# Altium schematic symbol library kmilo17pet-NSC_LDO.SchLib: 2675 symbols (part 20 of 65)
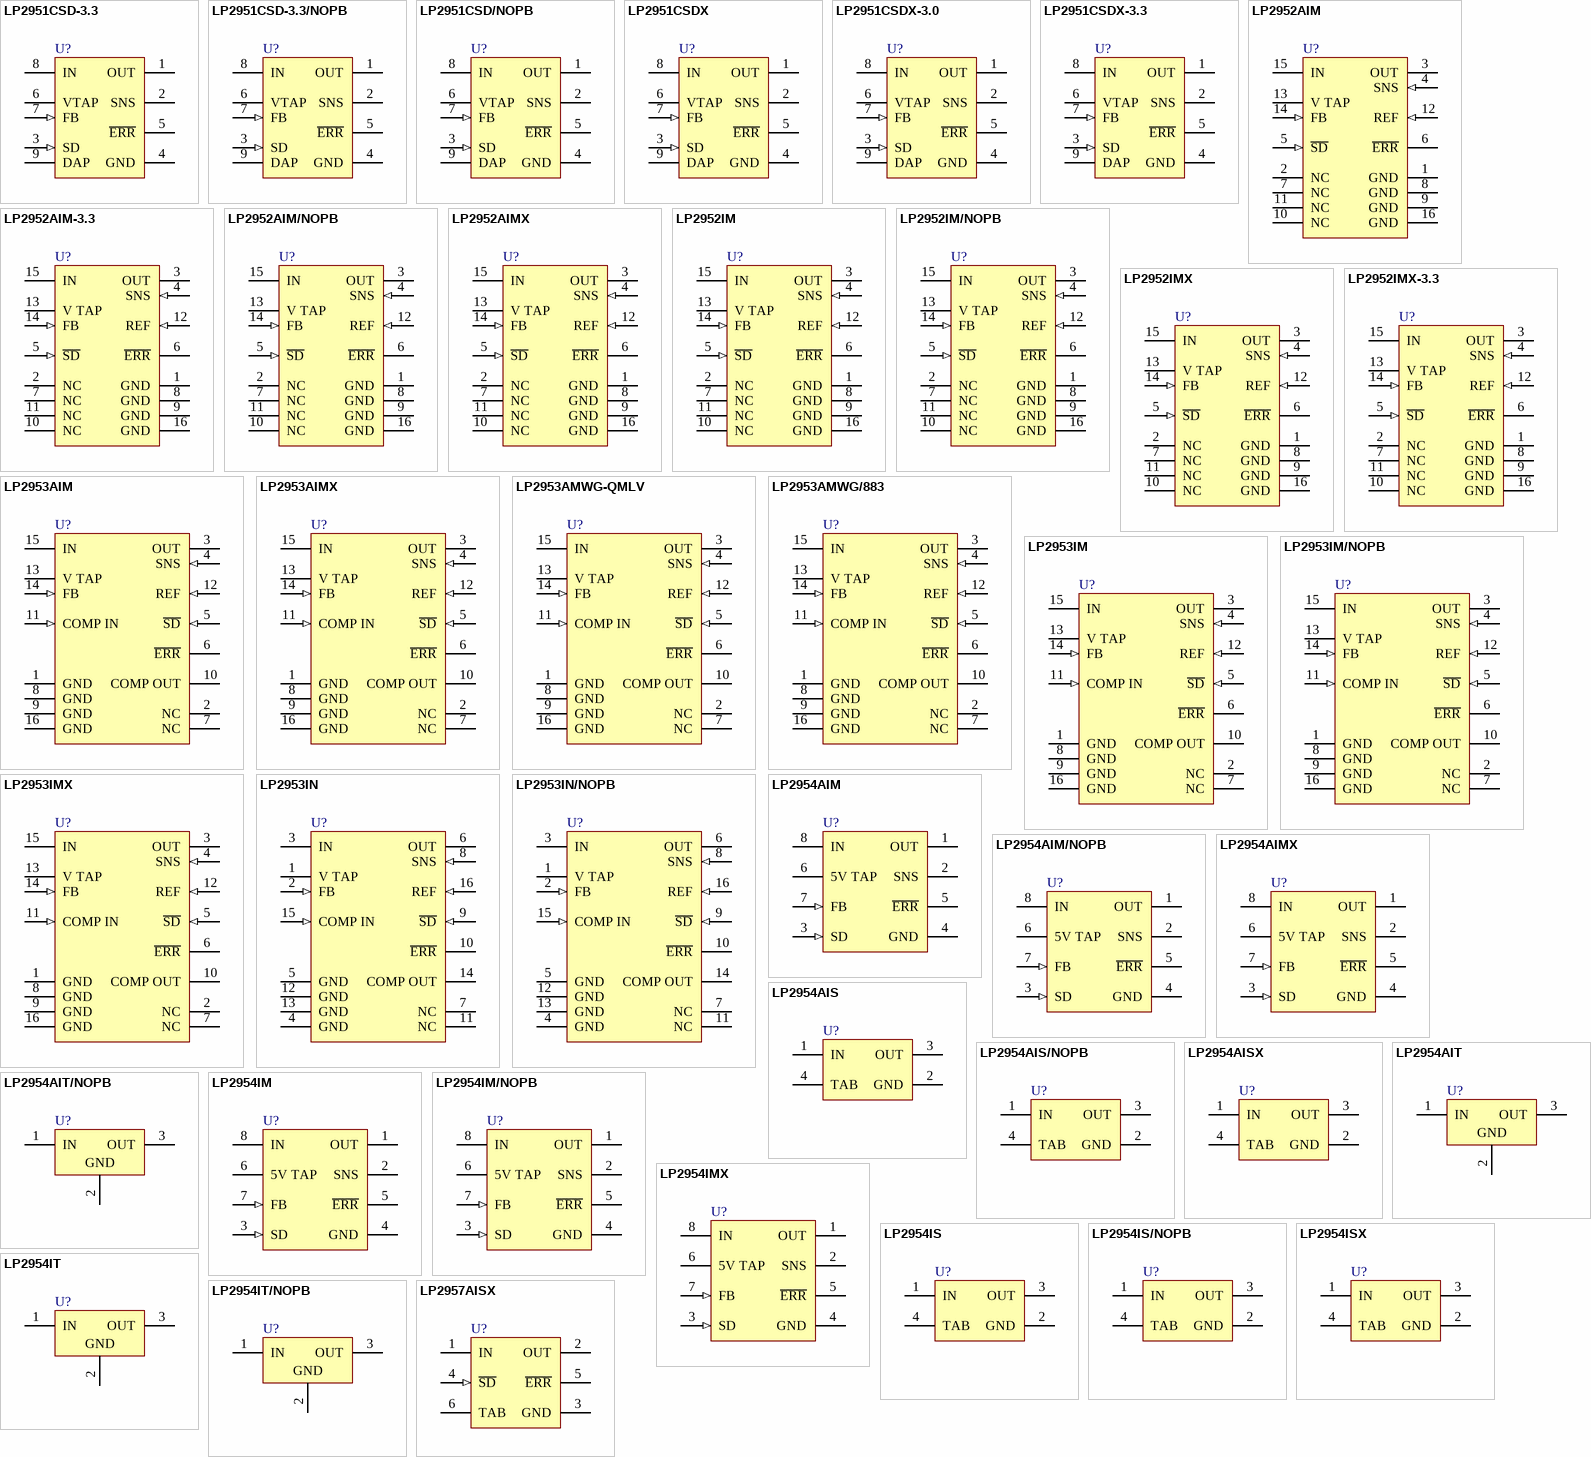
[diagram p86: symbols LP2951CSD-3.3 to LP2957AISX]

## LP2953IN
designator U?
Adjustable Micropower Low-Dropout Voltage Regulator, 16-pin MDIP; PartNumber: LP2953IN; Manufacturer: National Semiconductor; PackageTopMarking: NSUZXYYTTE#*LP2953IN; PowerWise: N; CompType: LDO IC; High-Reliability: Y; DatasheetVersion: Mar-2005; PackageVersion: revB, Feb-1989; PackageReference: N16G; PackageDescription: Molded Dip (N), 16 Lead, 15 Mil Power Package; RoHS: N; PinCount: 16; ComponentLink1Description: Manufacturer URL; ComponentLink1URL: http://www.national.com/; ComponentLink2Description: LP2953 Datasheet; ComponentLink2URL: http://www.national.com/ds/LP/LP2953.pdf; ComponentLink3Description: LP2953 Web Page; ComponentLink3URL: http://www.national.com/pf/LP/LP2953.html; ComponentLink4Description: N16G Package Page; ComponentLink4URL: http://www.national.com/packaging/folders/n16g.html
footprint N16G (DIP, 16-Leads, Row Spacing 7.62mm, Pitch 2.54mm, Body 21.76x6.35mm)
pins: 1 V TAP, 2 FB (in), 3 IN (power), 4 GND (power), 5 GND (power), 6 OUT (power), 7 NC, 8 SNS (in), 9 ~{SD} (in), 10 ~{ERR} (oc), 11 NC, 12 GND (power), 13 GND, 14 COMP OUT (oc), 15 COMP IN (in), 16 REF (in)

## LP2953IN/NOPB
designator U?
Adjustable Micropower Low-Dropout Voltage Regulator, 16-pin MDIP, Pb-Free; PartNumber: LP2953IN/NOPB; Manufacturer: National Semiconductor; PackageTopMarking: NSUZXYYTTE#*LP2953IN; PowerWise: N; CompType: LDO IC; High-Reliability: Y; DatasheetVersion: Mar-2005; PackageVersion: revB, Feb-1989; PackageReference: N16G; PackageDescription: Molded Dip (N), 16 Lead, 15 Mil Power Package; RoHS: Y; PinCount: 16; ComponentLink1Description: Manufacturer URL; ComponentLink1URL: http://www.national.com/; ComponentLink2Description: LP2953 Datasheet; ComponentLink2URL: http://www.national.com/ds/LP/LP2953.pdf; ComponentLink3Description: LP2953 Web Page; ComponentLink3URL: http://www.national.com/pf/LP/LP2953.html; ComponentLink4Description: N16G Package Page; ComponentLink4URL: http://www.national.com/packaging/folders/n16g.html
footprint N16G (DIP, 16-Leads, Row Spacing 7.62mm, Pitch 2.54mm, Body 21.76x6.35mm)
pins: 1 V TAP, 2 FB (in), 3 IN (power), 4 GND (power), 5 GND (power), 6 OUT (power), 7 NC, 8 SNS (in), 9 ~{SD} (in), 10 ~{ERR} (oc), 11 NC, 12 GND (power), 13 GND, 14 COMP OUT (oc), 15 COMP IN (in), 16 REF (in)

## LP2954AIM
designator U?
5V Micropower Low-Dropout Voltage Regulator, 8-pin Narrow SOIC; PartNumber: LP2954AIM; Manufacturer: National Semiconductor; PackageTopMarking: NSZXTT*LP295*4AIM; PowerWise: N; CompType: LDO IC; High-Reliability: Y; DatasheetVersion: Apr-2005; PackageVersion: revM, May-2009; PackageReference: M08A; PackageDescription: SOIC Narrow, 4.9 x 3.9 x 1.45mm, 8 Lead, 1.27mm Pitch; RoHS: N; PinCount: 8; Code_JEDEC: MS-012-AA; Code_IPC: SOIC127P600-8; ComponentLink1Description: Manufacturer URL; ComponentLink1URL: http://www.national.com/; ComponentLink2Description: LP2954A Datasheet; ComponentLink2URL: http://www.national.com/ds/LP/LP2954A.pdf; ComponentLink3Description: LP2954A Web Page; ComponentLink3URL: http://www.national.com/pf/LP/LP2954A.html; ComponentLink4Description: M08A Package Page; ComponentLink4URL: http://www.national.com/packaging/folders/m08a.html
footprint M08A_N (SOIC, 8-Leads, Body 4.9x3.9mm, Pitch 1.27mm, IPC Medium Density)
footprint M08A_L (SOIC, 8-Leads, Body 4.9x3.9mm, Pitch 1.27mm, IPC High Density)
footprint M08A_M (SOIC, 8-Leads, Body 4.9x3.9mm, Pitch 1.27mm, IPC Low Density)
pins: 1 OUT (power), 2 SNS, 3 SD (in), 4 GND (power), 5 ~{ERR} (oc), 6 5V TAP, 7 FB (in), 8 IN (power)

## LP2954AIM/NOPB
designator U?
5V Micropower Low-Dropout Voltage Regulator, 8-pin Narrow SOIC, Pb-Free; PartNumber: LP2954AIM/NOPB; Manufacturer: National Semiconductor; PackageTopMarking: NSZXTT*LP295*4AIM; PowerWise: N; CompType: LDO IC; High-Reliability: Y; DatasheetVersion: Apr-2005; PackageVersion: revM, May-2009; PackageReference: M08A; PackageDescription: SOIC Narrow, 4.9 x 3.9 x 1.45mm, 8 Lead, 1.27mm Pitch; RoHS: Y; PinCount: 8; Code_JEDEC: MS-012-AA; Code_IPC: SOIC127P600-8; ComponentLink1Description: Manufacturer URL; ComponentLink1URL: http://www.national.com/; ComponentLink2Description: LP2954A Datasheet; ComponentLink2URL: http://www.national.com/ds/LP/LP2954A.pdf; ComponentLink3Description: LP2954A Web Page; ComponentLink3URL: http://www.national.com/pf/LP/LP2954A.html; ComponentLink4Description: M08A Package Page; ComponentLink4URL: http://www.national.com/packaging/folders/m08a.html
footprint M08A_N (SOIC, 8-Leads, Body 4.9x3.9mm, Pitch 1.27mm, IPC Medium Density)
footprint M08A_L (SOIC, 8-Leads, Body 4.9x3.9mm, Pitch 1.27mm, IPC High Density)
footprint M08A_M (SOIC, 8-Leads, Body 4.9x3.9mm, Pitch 1.27mm, IPC Low Density)
pins: 1 OUT (power), 2 SNS, 3 SD (in), 4 GND (power), 5 ~{ERR} (oc), 6 5V TAP, 7 FB (in), 8 IN (power)

## LP2954AIMX
designator U?
5V Micropower Low-Dropout Voltage Regulator, 8-pin Narrow SOIC; PartNumber: LP2954AIMX; Manufacturer: National Semiconductor; PackageTopMarking: NSZXTT*LP295*4AIM; PowerWise: N; CompType: LDO IC; High-Reliability: Y; DatasheetVersion: Apr-2005; PackageVersion: revM, May-2009; PackageReference: M08A; PackageDescription: SOIC Narrow, 4.9 x 3.9 x 1.45mm, 8 Lead, 1.27mm Pitch; RoHS: N; PinCount: 8; Code_JEDEC: MS-012-AA; Code_IPC: SOIC127P600-8; ComponentLink1Description: Manufacturer URL; ComponentLink1URL: http://www.national.com/; ComponentLink2Description: LP2954A Datasheet; ComponentLink2URL: http://www.national.com/ds/LP/LP2954A.pdf; ComponentLink3Description: LP2954A Web Page; ComponentLink3URL: http://www.national.com/pf/LP/LP2954A.html; ComponentLink4Description: M08A Package Page; ComponentLink4URL: http://www.national.com/packaging/folders/m08a.html
footprint M08A_N (SOIC, 8-Leads, Body 4.9x3.9mm, Pitch 1.27mm, IPC Medium Density)
footprint M08A_L (SOIC, 8-Leads, Body 4.9x3.9mm, Pitch 1.27mm, IPC High Density)
footprint M08A_M (SOIC, 8-Leads, Body 4.9x3.9mm, Pitch 1.27mm, IPC Low Density)
pins: 1 OUT (power), 2 SNS, 3 SD (in), 4 GND (power), 5 ~{ERR} (oc), 6 5V TAP, 7 FB (in), 8 IN (power)

## LP2954AIS
designator U?
5V Micropower Low-Dropout Voltage Regulator, 3-pin TO-263; PartNumber: LP2954AIS; Manufacturer: National Semiconductor; PackageTopMarking: NSUZXYTTE#*LP2954AIS; PowerWise: N; CompType: LDO IC; High-Reliability: Y; DatasheetVersion: Apr-2005; PackageVersion: revF, Apr-2005; PackageReference: TS3B; PackageDescription: TO-263, Molded, .400 x .390 x .180in, 3 Lead, .1in Pitch, Surface Mount; RoHS: N; PinCount: 3; Code_JEDEC: MO-169-AA; ComponentLink1Description: Manufacturer URL; ComponentLink1URL: http://www.national.com/; ComponentLink2Description: LP2954A Datasheet; ComponentLink2URL: http://www.national.com/ds/LP/LP2954A.pdf; ComponentLink3Description: LP2954A Web Page; ComponentLink3URL: http://www.national.com/pf/LP/LP2954A.html; ComponentLink4Description: TS3B Package Page; ComponentLink4URL: http://www.national.com/packaging/folders/ts3b.html
footprint TS3B_N (D2-PAK, 4-Leads, Body 8.6x10.2mm, Pitch 2.54mm, Lead Span 14.2mm, IPC Medium Density)
footprint TS3B_L (D2-PAK, 4-Leads, Body 8.6x10.2mm, Pitch 2.54mm, Lead Span 14.2mm, IPC High Density)
footprint TS3B_M (D2-PAK, 4-Leads, Body 8.6x10.2mm, Pitch 2.54mm, Lead Span 14.2mm, IPC Low Density)
pins: 1 IN (power), 2 GND (power), 3 OUT (power), 4 TAB (power)

## LP2954AIS/NOPB
designator U?
5V Micropower Low-Dropout Voltage Regulator, 3-pin TO-263, Pb-Free; PartNumber: LP2954AIS/NOPB; Manufacturer: National Semiconductor; PackageTopMarking: NSUZXYTTE#*LP2954AIS; PowerWise: N; CompType: LDO IC; High-Reliability: Y; DatasheetVersion: Apr-2005; PackageVersion: revF, Apr-2005; PackageReference: TS3B; PackageDescription: TO-263, Molded, .400 x .390 x .180in, 3 Lead, .1in Pitch, Surface Mount; RoHS: Y; PinCount: 3; Code_JEDEC: MO-169-AA; ComponentLink1Description: Manufacturer URL; ComponentLink1URL: http://www.national.com/; ComponentLink2Description: LP2954A Datasheet; ComponentLink2URL: http://www.national.com/ds/LP/LP2954A.pdf; ComponentLink3Description: LP2954A Web Page; ComponentLink3URL: http://www.national.com/pf/LP/LP2954A.html; ComponentLink4Description: TS3B Package Page; ComponentLink4URL: http://www.national.com/packaging/folders/ts3b.html
footprint TS3B_N (D2-PAK, 4-Leads, Body 8.6x10.2mm, Pitch 2.54mm, Lead Span 14.2mm, IPC Medium Density)
footprint TS3B_L (D2-PAK, 4-Leads, Body 8.6x10.2mm, Pitch 2.54mm, Lead Span 14.2mm, IPC High Density)
footprint TS3B_M (D2-PAK, 4-Leads, Body 8.6x10.2mm, Pitch 2.54mm, Lead Span 14.2mm, IPC Low Density)
pins: 1 IN (power), 2 GND (power), 3 OUT (power), 4 TAB (power)

## LP2954AISX
designator U?
5V Micropower Low-Dropout Voltage Regulator, 3-pin TO-263; PartNumber: LP2954AISX; Manufacturer: National Semiconductor; PackageTopMarking: NSUZXYTTE#*LP2954AIS; PowerWise: N; CompType: LDO IC; High-Reliability: Y; DatasheetVersion: Apr-2005; PackageVersion: revF, Apr-2005; PackageReference: TS3B; PackageDescription: TO-263, Molded, .400 x .390 x .180in, 3 Lead, .1in Pitch, Surface Mount; RoHS: N; PinCount: 3; Code_JEDEC: MO-169-AA; ComponentLink1Description: Manufacturer URL; ComponentLink1URL: http://www.national.com/; ComponentLink2Description: LP2954A Datasheet; ComponentLink2URL: http://www.national.com/ds/LP/LP2954A.pdf; ComponentLink3Description: LP2954A Web Page; ComponentLink3URL: http://www.national.com/pf/LP/LP2954A.html; ComponentLink4Description: TS3B Package Page; ComponentLink4URL: http://www.national.com/packaging/folders/ts3b.html
footprint TS3B_N (D2-PAK, 4-Leads, Body 8.6x10.2mm, Pitch 2.54mm, Lead Span 14.2mm, IPC Medium Density)
footprint TS3B_L (D2-PAK, 4-Leads, Body 8.6x10.2mm, Pitch 2.54mm, Lead Span 14.2mm, IPC High Density)
footprint TS3B_M (D2-PAK, 4-Leads, Body 8.6x10.2mm, Pitch 2.54mm, Lead Span 14.2mm, IPC Low Density)
pins: 1 IN (power), 2 GND (power), 3 OUT (power), 4 TAB (power)

## LP2954AIT
designator U?
5V Micropower Low-Dropout Voltage Regulator, 3-pin TO-220; PartNumber: LP2954AIT; Manufacturer: National Semiconductor; PackageTopMarking: NSUZXYTTE#*LP2954AIT; PowerWise: N; CompType: LDO IC; High-Reliability: Y; DatasheetVersion: Apr-2005; PackageVersion: revL, Jan-1992; PackageReference: T03B; PackageDescription: TO-220, Molded, 3 Lead, Straight; RoHS: N; PinCount: 3; ComponentLink1Description: Manufacturer URL; ComponentLink1URL: http://www.national.com/; ComponentLink2Description: LP2954A Datasheet; ComponentLink2URL: http://www.national.com/ds/LP/LP2954A.pdf; ComponentLink3Description: LP2954A Web Page; ComponentLink3URL: http://www.national.com/pf/LP/LP2954A.html; ComponentLink4Description: T03B Package Page; ComponentLink4URL: http://www.national.com/packaging/folders/t03b.html
footprint T03B (TO, Thru-Hole, Vertical, Heatsink Mounted; 3 In-Line Leads; Pitch 2.54 mm)
pins: 1 IN (power), 2 GND (power), 3 OUT (power)

## LP2954AIT/NOPB
designator U?
5V Micropower Low-Dropout Voltage Regulator, 3-pin TO-220, Pb-Free; PartNumber: LP2954AIT/NOPB; Manufacturer: National Semiconductor; PackageTopMarking: NSUZXYTTE#*LP2954AIT; PowerWise: N; CompType: LDO IC; High-Reliability: Y; DatasheetVersion: Apr-2005; PackageVersion: revL, Jan-1992; PackageReference: T03B; PackageDescription: TO-220, Molded, 3 Lead, Straight; RoHS: Y; PinCount: 3; ComponentLink1Description: Manufacturer URL; ComponentLink1URL: http://www.national.com/; ComponentLink2Description: LP2954A Datasheet; ComponentLink2URL: http://www.national.com/ds/LP/LP2954A.pdf; ComponentLink3Description: LP2954A Web Page; ComponentLink3URL: http://www.national.com/pf/LP/LP2954A.html; ComponentLink4Description: T03B Package Page; ComponentLink4URL: http://www.national.com/packaging/folders/t03b.html
footprint T03B (TO, Thru-Hole, Vertical, Heatsink Mounted; 3 In-Line Leads; Pitch 2.54 mm)
pins: 1 IN (power), 2 GND (power), 3 OUT (power)

## LP2954IM
designator U?
5V Micropower Low-Dropout Voltage Regulator, 8-pin Narrow SOIC; PartNumber: LP2954IM; Manufacturer: National Semiconductor; PackageTopMarking: NSZXTT*LP29*54IM; PowerWise: N; CompType: LDO IC; High-Reliability: Y; DatasheetVersion: Apr-2005; PackageVersion: revM, May-2009; PackageReference: M08A; PackageDescription: SOIC Narrow, 4.9 x 3.9 x 1.45mm, 8 Lead, 1.27mm Pitch; RoHS: N; PinCount: 8; Code_JEDEC: MS-012-AA; Code_IPC: SOIC127P600-8; ComponentLink1Description: Manufacturer URL; ComponentLink1URL: http://www.national.com/; ComponentLink2Description: LP2954 Datasheet; ComponentLink2URL: http://www.national.com/ds/LP/LP2954.pdf; ComponentLink3Description: LP2954 Web Page; ComponentLink3URL: http://www.national.com/pf/LP/LP2954.html; ComponentLink4Description: M08A Package Page; ComponentLink4URL: http://www.national.com/packaging/folders/m08a.html
footprint M08A_N (SOIC, 8-Leads, Body 4.9x3.9mm, Pitch 1.27mm, IPC Medium Density)
footprint M08A_L (SOIC, 8-Leads, Body 4.9x3.9mm, Pitch 1.27mm, IPC High Density)
footprint M08A_M (SOIC, 8-Leads, Body 4.9x3.9mm, Pitch 1.27mm, IPC Low Density)
pins: 1 OUT (power), 2 SNS, 3 SD (in), 4 GND (power), 5 ~{ERR} (oc), 6 5V TAP, 7 FB (in), 8 IN (power)

## LP2954IM/NOPB
designator U?
5V Micropower Low-Dropout Voltage Regulator, 8-pin Narrow SOIC, Pb-Free; PartNumber: LP2954IM/NOPB; Manufacturer: National Semiconductor; PackageTopMarking: NSZXTT*LP29*54IM; PowerWise: N; CompType: LDO IC; High-Reliability: Y; DatasheetVersion: Apr-2005; PackageVersion: revM, May-2009; PackageReference: M08A; PackageDescription: SOIC Narrow, 4.9 x 3.9 x 1.45mm, 8 Lead, 1.27mm Pitch; RoHS: Y; PinCount: 8; Code_JEDEC: MS-012-AA; Code_IPC: SOIC127P600-8; ComponentLink1Description: Manufacturer URL; ComponentLink1URL: http://www.national.com/; ComponentLink2Description: LP2954 Datasheet; ComponentLink2URL: http://www.national.com/ds/LP/LP2954.pdf; ComponentLink3Description: LP2954 Web Page; ComponentLink3URL: http://www.national.com/pf/LP/LP2954.html; ComponentLink4Description: M08A Package Page; ComponentLink4URL: http://www.national.com/packaging/folders/m08a.html
footprint M08A_N (SOIC, 8-Leads, Body 4.9x3.9mm, Pitch 1.27mm, IPC Medium Density)
footprint M08A_L (SOIC, 8-Leads, Body 4.9x3.9mm, Pitch 1.27mm, IPC High Density)
footprint M08A_M (SOIC, 8-Leads, Body 4.9x3.9mm, Pitch 1.27mm, IPC Low Density)
pins: 1 OUT (power), 2 SNS, 3 SD (in), 4 GND (power), 5 ~{ERR} (oc), 6 5V TAP, 7 FB (in), 8 IN (power)

## LP2954IMX
designator U?
5V Micropower Low-Dropout Voltage Regulator, 8-pin Narrow SOIC; PartNumber: LP2954IMX; Manufacturer: National Semiconductor; PackageTopMarking: NSZXTT*LP29*54IM; PowerWise: N; CompType: LDO IC; High-Reliability: Y; DatasheetVersion: Apr-2005; PackageVersion: revM, May-2009; PackageReference: M08A; PackageDescription: SOIC Narrow, 4.9 x 3.9 x 1.45mm, 8 Lead, 1.27mm Pitch; RoHS: N; PinCount: 8; Code_JEDEC: MS-012-AA; Code_IPC: SOIC127P600-8; ComponentLink1Description: Manufacturer URL; ComponentLink1URL: http://www.national.com/; ComponentLink2Description: LP2954 Datasheet; ComponentLink2URL: http://www.national.com/ds/LP/LP2954.pdf; ComponentLink3Description: LP2954 Web Page; ComponentLink3URL: http://www.national.com/pf/LP/LP2954.html; ComponentLink4Description: M08A Package Page; ComponentLink4URL: http://www.national.com/packaging/folders/m08a.html
footprint M08A_N (SOIC, 8-Leads, Body 4.9x3.9mm, Pitch 1.27mm, IPC Medium Density)
footprint M08A_L (SOIC, 8-Leads, Body 4.9x3.9mm, Pitch 1.27mm, IPC High Density)
footprint M08A_M (SOIC, 8-Leads, Body 4.9x3.9mm, Pitch 1.27mm, IPC Low Density)
pins: 1 OUT (power), 2 SNS, 3 SD (in), 4 GND (power), 5 ~{ERR} (oc), 6 5V TAP, 7 FB (in), 8 IN (power)

## LP2954IS
designator U?
5V Micropower Low-Dropout Voltage Regulator, 3-pin TO-263; PartNumber: LP2954IS; Manufacturer: National Semiconductor; PackageTopMarking: NSUZXYTTE#*LP2954IS; PowerWise: N; CompType: LDO IC; High-Reliability: Y; DatasheetVersion: Apr-2005; PackageVersion: revF, Apr-2005; PackageReference: TS3B; PackageDescription: TO-263, Molded, .400 x .390 x .180in, 3 Lead, .1in Pitch, Surface Mount; RoHS: N; PinCount: 3; Code_JEDEC: MO-169-AA; ComponentLink1Description: Manufacturer URL; ComponentLink1URL: http://www.national.com/; ComponentLink2Description: LP2954 Datasheet; ComponentLink2URL: http://www.national.com/ds/LP/LP2954.pdf; ComponentLink3Description: LP2954 Web Page; ComponentLink3URL: http://www.national.com/pf/LP/LP2954.html; ComponentLink4Description: TS3B Package Page; ComponentLink4URL: http://www.national.com/packaging/folders/ts3b.html
footprint TS3B_N (D2-PAK, 4-Leads, Body 8.6x10.2mm, Pitch 2.54mm, Lead Span 14.2mm, IPC Medium Density)
footprint TS3B_L (D2-PAK, 4-Leads, Body 8.6x10.2mm, Pitch 2.54mm, Lead Span 14.2mm, IPC High Density)
footprint TS3B_M (D2-PAK, 4-Leads, Body 8.6x10.2mm, Pitch 2.54mm, Lead Span 14.2mm, IPC Low Density)
pins: 1 IN (power), 2 GND (power), 3 OUT (power), 4 TAB (power)

## LP2954IS/NOPB
designator U?
5V Micropower Low-Dropout Voltage Regulator, 3-pin TO-263, Pb-Free; PartNumber: LP2954IS/NOPB; Manufacturer: National Semiconductor; PackageTopMarking: NSUZXYTTE#*LP2954IS; PowerWise: N; CompType: LDO IC; High-Reliability: Y; DatasheetVersion: Apr-2005; PackageVersion: revF, Apr-2005; PackageReference: TS3B; PackageDescription: TO-263, Molded, .400 x .390 x .180in, 3 Lead, .1in Pitch, Surface Mount; RoHS: Y; PinCount: 3; Code_JEDEC: MO-169-AA; ComponentLink1Description: Manufacturer URL; ComponentLink1URL: http://www.national.com/; ComponentLink2Description: LP2954 Datasheet; ComponentLink2URL: http://www.national.com/ds/LP/LP2954.pdf; ComponentLink3Description: LP2954 Web Page; ComponentLink3URL: http://www.national.com/pf/LP/LP2954.html; ComponentLink4Description: TS3B Package Page; ComponentLink4URL: http://www.national.com/packaging/folders/ts3b.html
footprint TS3B_N (D2-PAK, 4-Leads, Body 8.6x10.2mm, Pitch 2.54mm, Lead Span 14.2mm, IPC Medium Density)
footprint TS3B_L (D2-PAK, 4-Leads, Body 8.6x10.2mm, Pitch 2.54mm, Lead Span 14.2mm, IPC High Density)
footprint TS3B_M (D2-PAK, 4-Leads, Body 8.6x10.2mm, Pitch 2.54mm, Lead Span 14.2mm, IPC Low Density)
pins: 1 IN (power), 2 GND (power), 3 OUT (power), 4 TAB (power)

## LP2954ISX
designator U?
5V Micropower Low-Dropout Voltage Regulator, 3-pin TO-263; PartNumber: LP2954ISX; Manufacturer: National Semiconductor; PackageTopMarking: NSUZXYTTE#*LP2954IS; PowerWise: N; CompType: LDO IC; High-Reliability: Y; DatasheetVersion: Apr-2005; PackageVersion: revF, Apr-2005; PackageReference: TS3B; PackageDescription: TO-263, Molded, .400 x .390 x .180in, 3 Lead, .1in Pitch, Surface Mount; RoHS: N; PinCount: 3; Code_JEDEC: MO-169-AA; ComponentLink1Description: Manufacturer URL; ComponentLink1URL: http://www.national.com/; ComponentLink2Description: LP2954 Datasheet; ComponentLink2URL: http://www.national.com/ds/LP/LP2954.pdf; ComponentLink3Description: LP2954 Web Page; ComponentLink3URL: http://www.national.com/pf/LP/LP2954.html; ComponentLink4Description: TS3B Package Page; ComponentLink4URL: http://www.national.com/packaging/folders/ts3b.html
footprint TS3B_N (D2-PAK, 4-Leads, Body 8.6x10.2mm, Pitch 2.54mm, Lead Span 14.2mm, IPC Medium Density)
footprint TS3B_L (D2-PAK, 4-Leads, Body 8.6x10.2mm, Pitch 2.54mm, Lead Span 14.2mm, IPC High Density)
footprint TS3B_M (D2-PAK, 4-Leads, Body 8.6x10.2mm, Pitch 2.54mm, Lead Span 14.2mm, IPC Low Density)
pins: 1 IN (power), 2 GND (power), 3 OUT (power), 4 TAB (power)

## LP2954IT
designator U?
5V Micropower Low-Dropout Voltage Regulator, 3-pin TO-220; PartNumber: LP2954IT; Manufacturer: National Semiconductor; PackageTopMarking: NSUZXYTTE#*LP2954IT; PowerWise: N; CompType: LDO IC; High-Reliability: Y; DatasheetVersion: Apr-2005; PackageVersion: revL, Jan-1992; PackageReference: T03B; PackageDescription: TO-220, Molded, 3 Lead, Straight; RoHS: N; PinCount: 3; ComponentLink1Description: Manufacturer URL; ComponentLink1URL: http://www.national.com/; ComponentLink2Description: LP2954 Datasheet; ComponentLink2URL: http://www.national.com/ds/LP/LP2954.pdf; ComponentLink3Description: LP2954 Web Page; ComponentLink3URL: http://www.national.com/pf/LP/LP2954.html; ComponentLink4Description: T03B Package Page; ComponentLink4URL: http://www.national.com/packaging/folders/t03b.html
footprint T03B (TO, Thru-Hole, Vertical, Heatsink Mounted; 3 In-Line Leads; Pitch 2.54 mm)
pins: 1 IN (power), 2 GND (power), 3 OUT (power)

## LP2954IT/NOPB
designator U?
5V Micropower Low-Dropout Voltage Regulator, 3-pin TO-220, Pb-Free; PartNumber: LP2954IT/NOPB; Manufacturer: National Semiconductor; PackageTopMarking: NSUZXYTTE#*LP2954IT; PowerWise: N; CompType: LDO IC; High-Reliability: Y; DatasheetVersion: Apr-2005; PackageVersion: revL, Jan-1992; PackageReference: T03B; PackageDescription: TO-220, Molded, 3 Lead, Straight; RoHS: Y; PinCount: 3; ComponentLink1Description: Manufacturer URL; ComponentLink1URL: http://www.national.com/; ComponentLink2Description: LP2954 Datasheet; ComponentLink2URL: http://www.national.com/ds/LP/LP2954.pdf; ComponentLink3Description: LP2954 Web Page; ComponentLink3URL: http://www.national.com/pf/LP/LP2954.html; ComponentLink4Description: T03B Package Page; ComponentLink4URL: http://www.national.com/packaging/folders/t03b.html
footprint T03B (TO, Thru-Hole, Vertical, Heatsink Mounted; 3 In-Line Leads; Pitch 2.54 mm)
pins: 1 IN (power), 2 GND (power), 3 OUT (power)

## LP2957AISX
designator U?
5V Low-Dropout Regulator for micro-P Application, 5-pin TO-263; PartNumber: LP2957AISX; Manufacturer: National Semiconductor; PackageTopMarking: NSUZXYTTE#*LP2957AIS; PowerWise: N; CompType: LDO IC; High-Reliability: Y; DatasheetVersion: Jun-1998; PackageVersion: revD, Apr-2005; PackageReference: TS5B; PackageDescription: TO-263, Molded, .400 x .390 x .180in, 5 Lead, .067in Pitch, Surface Mount; RoHS: N; PinCount: 5; Code_JEDEC: MO-169-AB; ComponentLink1Description: Manufacturer URL; ComponentLink1URL: http://www.national.com/; ComponentLink2Description: LP2957A Datasheet; ComponentLink2URL: http://www.national.com/ds/LP/LP2957A.pdf; ComponentLink3Description: LP2957A Web Page; ComponentLink3URL: http://www.national.com/pf/LP/LP2957A.html; ComponentLink4Description: TS5B Package Page; ComponentLink4URL: http://www.national.com/packaging/folders/ts5b.html
footprint TS5B_N (D2-PAK, 6-Leads, Body 8.6x10.2mm, Pitch 1.7mm, Lead Span 14.1mm, IPC Medium Density)
footprint TS5B_L (D2-PAK, 6-Leads, Body 8.6x10.2mm, Pitch 1.7mm, Lead Span 14.1mm, IPC High Density)
footprint TS5B_M (D2-PAK, 6-Leads, Body 8.6x10.2mm, Pitch 1.7mm, Lead Span 14.1mm, IPC Low Density)
pins: 1 IN (power), 2 OUT (power), 3 GND (power), 4 ~{SD} (in), 5 ~{ERR} (oc), 6 TAB (power)

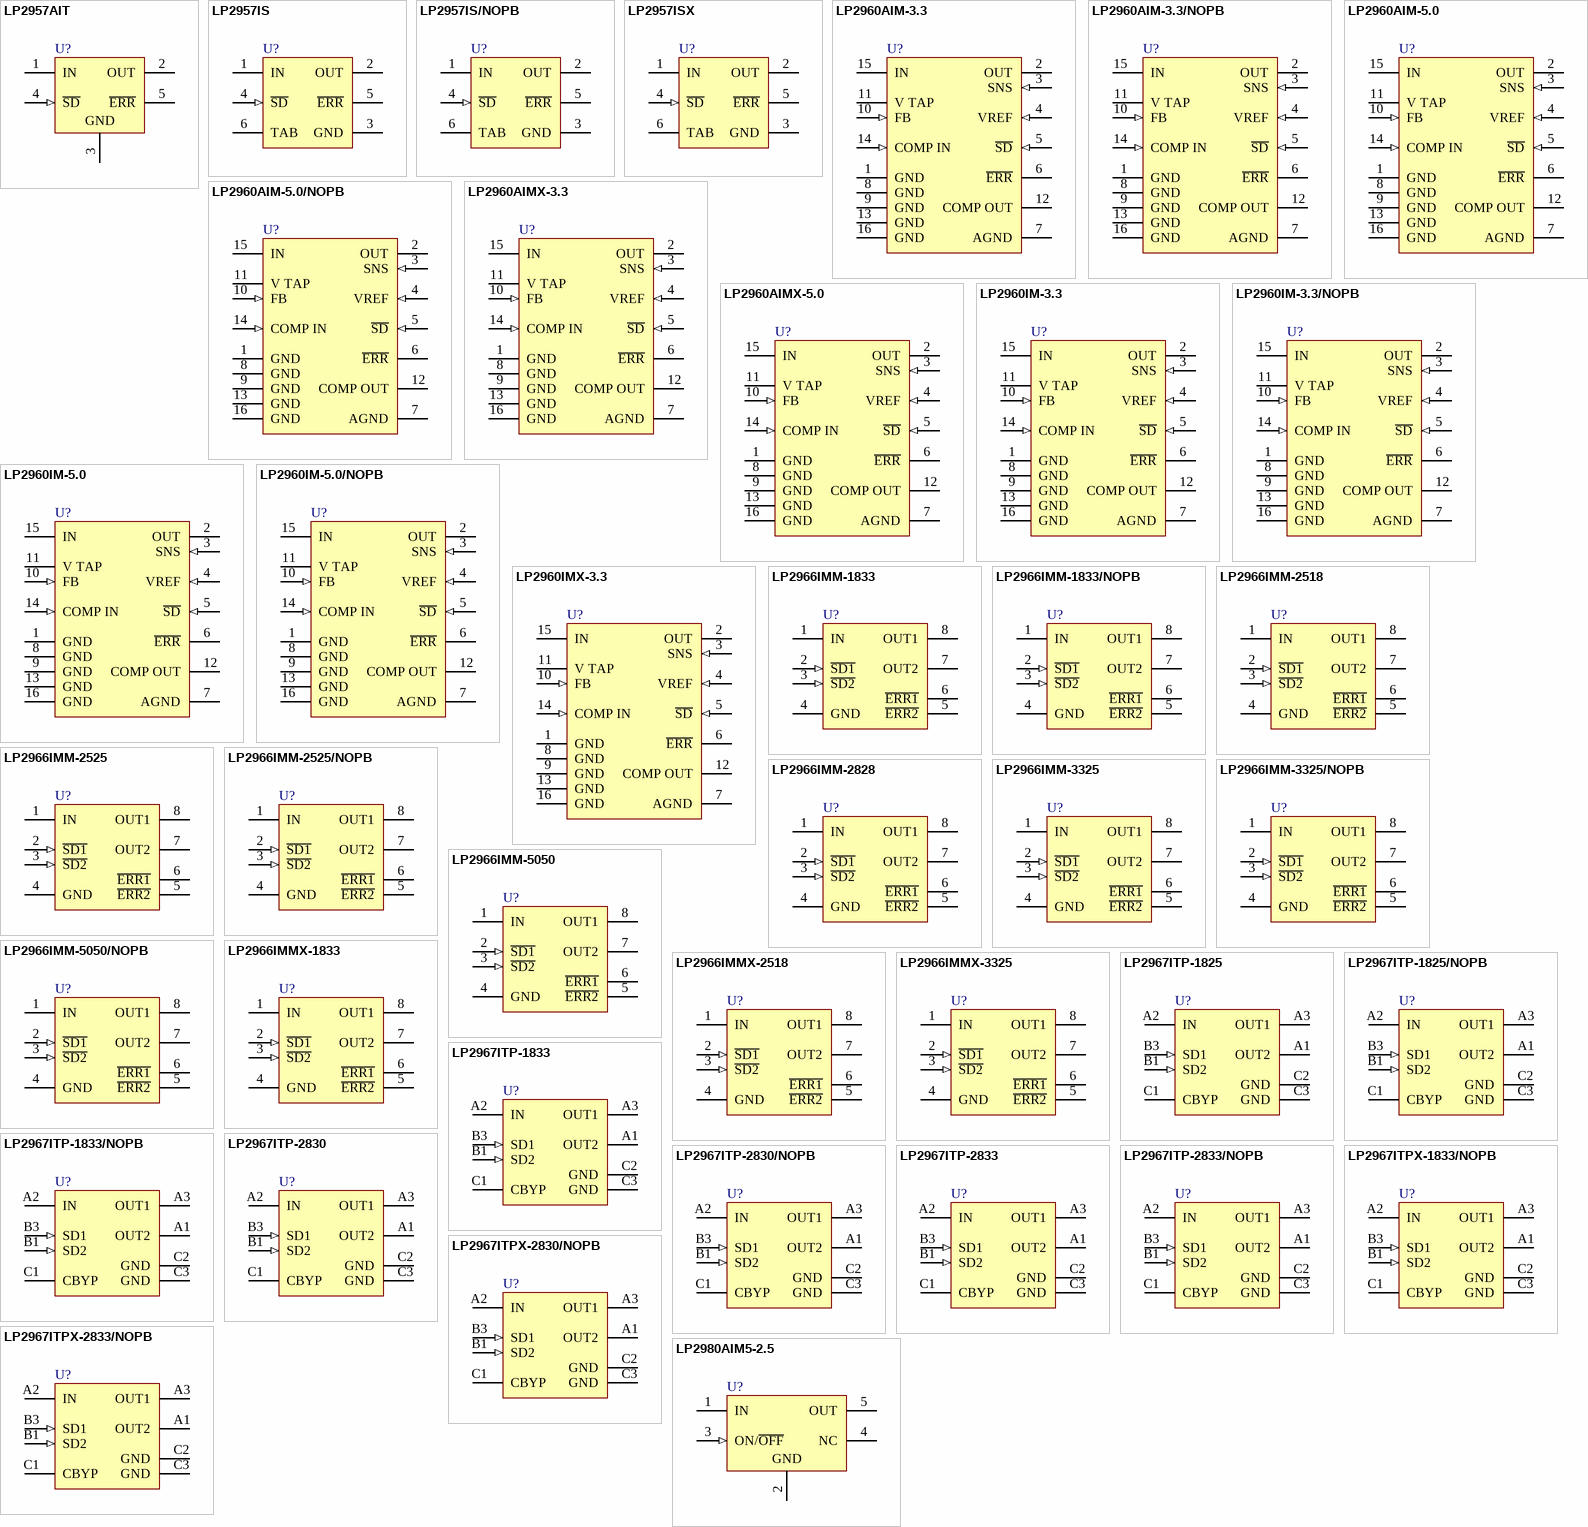
[diagram p21: symbols LP2957AIT to LP2980AIM5-2.5]

## LP2957AIT
designator U?
5V Low-Dropout Regulator for micro-P Application, 5-pin TO-220; PartNumber: LP2957AIT; Manufacturer: National Semiconductor; PackageTopMarking: NSUZXYTTE#*LP2957AIT; PowerWise: N; CompType: LDO IC; High-Reliability: Y; DatasheetVersion: Jun-1998; PackageVersion: revA, Oct-1989; PackageReference: T05D; PackageDescription: TO-220, Molded, Stagger Bend, 5 Lead; RoHS: N; PinCount: 5; ComponentLink1Description: Manufacturer URL; ComponentLink1URL: http://www.national.com/; ComponentLink2Description: LP2957A Datasheet; ComponentLink2URL: http://www.national.com/ds/LP/LP2957A.pdf; ComponentLink3Description: LP2957A Web Page; ComponentLink3URL: http://www.national.com/pf/LP/LP2957A.html; ComponentLink4Description: T05D Package Page; ComponentLink4URL: http://www.national.com/packaging/folders/t05d.html
footprint T05D (TO, Thru-Hole, Vertical, Heatsink Mounted; 5 Bent Staggered Leads; Body 10.3x8.6x4.6mm, Pitch 1.7 mm)
pins: 1 IN (power), 2 OUT (power), 3 GND (power), 4 ~{SD} (in), 5 ~{ERR} (oc)

## LP2957IS
designator U?
5V Low-Dropout Regulator for micro-P Application, 5-pin TO-263; PartNumber: LP2957IS; Manufacturer: National Semiconductor; PackageTopMarking: NSUZXYTTE#*LP2957IS; PowerWise: N; CompType: LDO IC; High-Reliability: Y; DatasheetVersion: Jun-1998; PackageVersion: revD, Apr-2005; PackageReference: TS5B; PackageDescription: TO-263, Molded, .400 x .390 x .180in, 5 Lead, .067in Pitch, Surface Mount; RoHS: N; PinCount: 5; Code_JEDEC: MO-169-AB; ComponentLink1Description: Manufacturer URL; ComponentLink1URL: http://www.national.com/; ComponentLink2Description: LP2957 Datasheet; ComponentLink2URL: http://www.national.com/ds/LP/LP2957.pdf; ComponentLink3Description: LP2957 Web Page; ComponentLink3URL: http://www.national.com/pf/LP/LP2957.html; ComponentLink4Description: TS5B Package Page; ComponentLink4URL: http://www.national.com/packaging/folders/ts5b.html
footprint TS5B_N (D2-PAK, 6-Leads, Body 8.6x10.2mm, Pitch 1.7mm, Lead Span 14.1mm, IPC Medium Density)
footprint TS5B_L (D2-PAK, 6-Leads, Body 8.6x10.2mm, Pitch 1.7mm, Lead Span 14.1mm, IPC High Density)
footprint TS5B_M (D2-PAK, 6-Leads, Body 8.6x10.2mm, Pitch 1.7mm, Lead Span 14.1mm, IPC Low Density)
pins: 1 IN (power), 2 OUT (power), 3 GND (power), 4 ~{SD} (in), 5 ~{ERR} (oc), 6 TAB (power)

## LP2957IS/NOPB
designator U?
5V Low-Dropout Regulator for micro-P Application, 5-pin TO-263, Pb-Free; PartNumber: LP2957IS/NOPB; Manufacturer: National Semiconductor; PackageTopMarking: NSUZXYTTE#*LP2957IS; PowerWise: N; CompType: LDO IC; High-Reliability: Y; DatasheetVersion: Jun-1998; PackageVersion: revD, Apr-2005; PackageReference: TS5B; PackageDescription: TO-263, Molded, .400 x .390 x .180in, 5 Lead, .067in Pitch, Surface Mount; RoHS: Y; PinCount: 5; Code_JEDEC: MO-169-AB; ComponentLink1Description: Manufacturer URL; ComponentLink1URL: http://www.national.com/; ComponentLink2Description: LP2957 Datasheet; ComponentLink2URL: http://www.national.com/ds/LP/LP2957.pdf; ComponentLink3Description: LP2957 Web Page; ComponentLink3URL: http://www.national.com/pf/LP/LP2957.html; ComponentLink4Description: TS5B Package Page; ComponentLink4URL: http://www.national.com/packaging/folders/ts5b.html
footprint TS5B_N (D2-PAK, 6-Leads, Body 8.6x10.2mm, Pitch 1.7mm, Lead Span 14.1mm, IPC Medium Density)
footprint TS5B_L (D2-PAK, 6-Leads, Body 8.6x10.2mm, Pitch 1.7mm, Lead Span 14.1mm, IPC High Density)
footprint TS5B_M (D2-PAK, 6-Leads, Body 8.6x10.2mm, Pitch 1.7mm, Lead Span 14.1mm, IPC Low Density)
pins: 1 IN (power), 2 OUT (power), 3 GND (power), 4 ~{SD} (in), 5 ~{ERR} (oc), 6 TAB (power)

## LP2957ISX
designator U?
5V Low-Dropout Regulator for micro-P Application, 5-pin TO-263; PartNumber: LP2957ISX; Manufacturer: National Semiconductor; PackageTopMarking: NSUZXYTTE#*LP2957IS; PowerWise: N; CompType: LDO IC; High-Reliability: Y; DatasheetVersion: Jun-1998; PackageVersion: revD, Apr-2005; PackageReference: TS5B; PackageDescription: TO-263, Molded, .400 x .390 x .180in, 5 Lead, .067in Pitch, Surface Mount; RoHS: N; PinCount: 5; Code_JEDEC: MO-169-AB; ComponentLink1Description: Manufacturer URL; ComponentLink1URL: http://www.national.com/; ComponentLink2Description: LP2957 Datasheet; ComponentLink2URL: http://www.national.com/ds/LP/LP2957.pdf; ComponentLink3Description: LP2957 Web Page; ComponentLink3URL: http://www.national.com/pf/LP/LP2957.html; ComponentLink4Description: TS5B Package Page; ComponentLink4URL: http://www.national.com/packaging/folders/ts5b.html
footprint TS5B_N (D2-PAK, 6-Leads, Body 8.6x10.2mm, Pitch 1.7mm, Lead Span 14.1mm, IPC Medium Density)
footprint TS5B_L (D2-PAK, 6-Leads, Body 8.6x10.2mm, Pitch 1.7mm, Lead Span 14.1mm, IPC High Density)
footprint TS5B_M (D2-PAK, 6-Leads, Body 8.6x10.2mm, Pitch 1.7mm, Lead Span 14.1mm, IPC Low Density)
pins: 1 IN (power), 2 OUT (power), 3 GND (power), 4 ~{SD} (in), 5 ~{ERR} (oc), 6 TAB (power)

## LP2960AIM-3.3
designator U?
Adjustable Micropower 0.5A Low-Dropout Regulators, 16-pin Narrow SOIC; PartNumber: LP2960AIM-3.3; Manufacturer: National Semiconductor; PackageTopMarking: NSUZXYTTE#*LP2960AIM*-3.3; PowerWise: N; CompType: LDO IC; High-Reliability: Y; DatasheetVersion: Jun-2005; PackageVersion: revJ, Aug-1995; PackageReference: M16A; PackageDescription: Molded Package, SO, .150in Wide, 16 Lead; RoHS: N; PinCount: 16; Code_JEDEC: MS-012-AC; Code_IPC: SOIC127P600-16; ComponentLink1Description: Manufacturer URL; ComponentLink1URL: http://www.national.com/; ComponentLink2Description: LP2960 Datasheet; ComponentLink2URL: http://www.national.com/ds/LP/LP2960.pdf; ComponentLink3Description: LP2960 Web Page; ComponentLink3URL: http://www.national.com/pf/LP/LP2960.html; ComponentLink4Description: M16A Package Page; ComponentLink4URL: http://www.national.com/packaging/folders/m16a.html
footprint M16A_N (SOIC, 16-Leads, Body 9.9x3.9mm, Pitch 1.27mm, IPC Medium Density)
footprint M16A_L (SOIC, 16-Leads, Body 9.9x3.9mm, Pitch 1.27mm, IPC High Density)
footprint M16A_M (SOIC, 16-Leads, Body 9.9x3.9mm, Pitch 1.27mm, IPC Low Density)
pins: 1 GND (power), 2 OUT (power), 3 SNS (in), 4 VREF (in), 5 ~{SD} (in), 6 ~{ERR} (oc), 7 AGND (power), 8 GND (power), 9 GND (power), 10 FB (in), 11 V TAP, 12 COMP OUT (oc), 13 GND (power), 14 COMP IN (in), 15 IN (power), 16 GND (power)

## LP2960AIM-3.3/NOPB
designator U?
Adjustable Micropower 0.5A Low-Dropout Regulators, 16-pin Narrow SOIC, Pb-Free; PartNumber: LP2960AIM-3.3/NOPB; Manufacturer: National Semiconductor; PackageTopMarking: NSUZXYTTE#*LP2960AIM*-3.3; PowerWise: N; CompType: LDO IC; High-Reliability: Y; DatasheetVersion: Jun-2005; PackageVersion: revJ, Aug-1995; PackageReference: M16A; PackageDescription: Molded Package, SO, .150in Wide, 16 Lead; RoHS: Y; PinCount: 16; Code_JEDEC: MS-012-AC; Code_IPC: SOIC127P600-16; ComponentLink1Description: Manufacturer URL; ComponentLink1URL: http://www.national.com/; ComponentLink2Description: LP2960 Datasheet; ComponentLink2URL: http://www.national.com/ds/LP/LP2960.pdf; ComponentLink3Description: LP2960 Web Page; ComponentLink3URL: http://www.national.com/pf/LP/LP2960.html; ComponentLink4Description: M16A Package Page; ComponentLink4URL: http://www.national.com/packaging/folders/m16a.html
footprint M16A_N (SOIC, 16-Leads, Body 9.9x3.9mm, Pitch 1.27mm, IPC Medium Density)
footprint M16A_L (SOIC, 16-Leads, Body 9.9x3.9mm, Pitch 1.27mm, IPC High Density)
footprint M16A_M (SOIC, 16-Leads, Body 9.9x3.9mm, Pitch 1.27mm, IPC Low Density)
pins: 1 GND (power), 2 OUT (power), 3 SNS (in), 4 VREF (in), 5 ~{SD} (in), 6 ~{ERR} (oc), 7 AGND (power), 8 GND (power), 9 GND (power), 10 FB (in), 11 V TAP, 12 COMP OUT (oc), 13 GND (power), 14 COMP IN (in), 15 IN (power), 16 GND (power)

## LP2960AIM-5.0
designator U?
Adjustable Micropower 0.5A Low-Dropout Regulators, 16-pin Narrow SOIC; PartNumber: LP2960AIM-5.0; Manufacturer: National Semiconductor; PackageTopMarking: NSUZXYTTE#*LP2960AIM*-5.0; PowerWise: N; CompType: LDO IC; High-Reliability: Y; DatasheetVersion: Jun-2005; PackageVersion: revJ, Aug-1995; PackageReference: M16A; PackageDescription: Molded Package, SO, .150in Wide, 16 Lead; RoHS: N; PinCount: 16; Code_JEDEC: MS-012-AC; Code_IPC: SOIC127P600-16; ComponentLink1Description: Manufacturer URL; ComponentLink1URL: http://www.national.com/; ComponentLink2Description: LP2960 Datasheet; ComponentLink2URL: http://www.national.com/ds/LP/LP2960.pdf; ComponentLink3Description: LP2960 Web Page; ComponentLink3URL: http://www.national.com/pf/LP/LP2960.html; ComponentLink4Description: M16A Package Page; ComponentLink4URL: http://www.national.com/packaging/folders/m16a.html
footprint M16A_N (SOIC, 16-Leads, Body 9.9x3.9mm, Pitch 1.27mm, IPC Medium Density)
footprint M16A_L (SOIC, 16-Leads, Body 9.9x3.9mm, Pitch 1.27mm, IPC High Density)
footprint M16A_M (SOIC, 16-Leads, Body 9.9x3.9mm, Pitch 1.27mm, IPC Low Density)
pins: 1 GND (power), 2 OUT (power), 3 SNS (in), 4 VREF (in), 5 ~{SD} (in), 6 ~{ERR} (oc), 7 AGND (power), 8 GND (power), 9 GND (power), 10 FB (in), 11 V TAP, 12 COMP OUT (oc), 13 GND (power), 14 COMP IN (in), 15 IN (power), 16 GND (power)

## LP2960AIM-5.0/NOPB
designator U?
Adjustable Micropower 0.5A Low-Dropout Regulators, 16-pin Narrow SOIC, Pb-Free; PartNumber: LP2960AIM-5.0/NOPB; Manufacturer: National Semiconductor; PackageTopMarking: NSUZXYTTE#*LP2960AIM*-5.0; PowerWise: N; CompType: LDO IC; High-Reliability: Y; DatasheetVersion: Jun-2005; PackageVersion: revJ, Aug-1995; PackageReference: M16A; PackageDescription: Molded Package, SO, .150in Wide, 16 Lead; RoHS: Y; PinCount: 16; Code_JEDEC: MS-012-AC; Code_IPC: SOIC127P600-16; ComponentLink1Description: Manufacturer URL; ComponentLink1URL: http://www.national.com/; ComponentLink2Description: LP2960 Datasheet; ComponentLink2URL: http://www.national.com/ds/LP/LP2960.pdf; ComponentLink3Description: LP2960 Web Page; ComponentLink3URL: http://www.national.com/pf/LP/LP2960.html; ComponentLink4Description: M16A Package Page; ComponentLink4URL: http://www.national.com/packaging/folders/m16a.html
footprint M16A_N (SOIC, 16-Leads, Body 9.9x3.9mm, Pitch 1.27mm, IPC Medium Density)
footprint M16A_L (SOIC, 16-Leads, Body 9.9x3.9mm, Pitch 1.27mm, IPC High Density)
footprint M16A_M (SOIC, 16-Leads, Body 9.9x3.9mm, Pitch 1.27mm, IPC Low Density)
pins: 1 GND (power), 2 OUT (power), 3 SNS (in), 4 VREF (in), 5 ~{SD} (in), 6 ~{ERR} (oc), 7 AGND (power), 8 GND (power), 9 GND (power), 10 FB (in), 11 V TAP, 12 COMP OUT (oc), 13 GND (power), 14 COMP IN (in), 15 IN (power), 16 GND (power)

## LP2960AIMX-3.3
designator U?
Adjustable Micropower 0.5A Low-Dropout Regulators, 16-pin Narrow SOIC; PartNumber: LP2960AIMX-3.3; Manufacturer: National Semiconductor; PackageTopMarking: NSUZXYTTE#*LP2960AIM*-3.3; PowerWise: N; CompType: LDO IC; High-Reliability: Y; DatasheetVersion: Jun-2005; PackageVersion: revJ, Aug-1995; PackageReference: M16A; PackageDescription: Molded Package, SO, .150in Wide, 16 Lead; RoHS: N; PinCount: 16; Code_JEDEC: MS-012-AC; Code_IPC: SOIC127P600-16; ComponentLink1Description: Manufacturer URL; ComponentLink1URL: http://www.national.com/; ComponentLink2Description: LP2960 Datasheet; ComponentLink2URL: http://www.national.com/ds/LP/LP2960.pdf; ComponentLink3Description: LP2960 Web Page; ComponentLink3URL: http://www.national.com/pf/LP/LP2960.html; ComponentLink4Description: M16A Package Page; ComponentLink4URL: http://www.national.com/packaging/folders/m16a.html
footprint M16A_N (SOIC, 16-Leads, Body 9.9x3.9mm, Pitch 1.27mm, IPC Medium Density)
footprint M16A_L (SOIC, 16-Leads, Body 9.9x3.9mm, Pitch 1.27mm, IPC High Density)
footprint M16A_M (SOIC, 16-Leads, Body 9.9x3.9mm, Pitch 1.27mm, IPC Low Density)
pins: 1 GND (power), 2 OUT (power), 3 SNS (in), 4 VREF (in), 5 ~{SD} (in), 6 ~{ERR} (oc), 7 AGND (power), 8 GND (power), 9 GND (power), 10 FB (in), 11 V TAP, 12 COMP OUT (oc), 13 GND (power), 14 COMP IN (in), 15 IN (power), 16 GND (power)

## LP2960AIMX-5.0
designator U?
Adjustable Micropower 0.5A Low-Dropout Regulators, 16-pin Narrow SOIC; PartNumber: LP2960AIMX-5.0; Manufacturer: National Semiconductor; PackageTopMarking: NSUZXYTTE#*LP2960AIM*-5.0; PowerWise: N; CompType: LDO IC; High-Reliability: Y; DatasheetVersion: Jun-2005; PackageVersion: revJ, Aug-1995; PackageReference: M16A; PackageDescription: Molded Package, SO, .150in Wide, 16 Lead; RoHS: N; PinCount: 16; Code_JEDEC: MS-012-AC; Code_IPC: SOIC127P600-16; ComponentLink1Description: Manufacturer URL; ComponentLink1URL: http://www.national.com/; ComponentLink2Description: LP2960 Datasheet; ComponentLink2URL: http://www.national.com/ds/LP/LP2960.pdf; ComponentLink3Description: LP2960 Web Page; ComponentLink3URL: http://www.national.com/pf/LP/LP2960.html; ComponentLink4Description: M16A Package Page; ComponentLink4URL: http://www.national.com/packaging/folders/m16a.html
footprint M16A_N (SOIC, 16-Leads, Body 9.9x3.9mm, Pitch 1.27mm, IPC Medium Density)
footprint M16A_L (SOIC, 16-Leads, Body 9.9x3.9mm, Pitch 1.27mm, IPC High Density)
footprint M16A_M (SOIC, 16-Leads, Body 9.9x3.9mm, Pitch 1.27mm, IPC Low Density)
pins: 1 GND (power), 2 OUT (power), 3 SNS (in), 4 VREF (in), 5 ~{SD} (in), 6 ~{ERR} (oc), 7 AGND (power), 8 GND (power), 9 GND (power), 10 FB (in), 11 V TAP, 12 COMP OUT (oc), 13 GND (power), 14 COMP IN (in), 15 IN (power), 16 GND (power)

## LP2960IM-3.3
designator U?
Adjustable Micropower 0.5A Low-Dropout Regulators, 16-pin Narrow SOIC; PartNumber: LP2960IM-3.3; Manufacturer: National Semiconductor; PackageTopMarking: NSUZXYTTE#*LP2960IM*-3.3; PowerWise: N; CompType: LDO IC; High-Reliability: Y; DatasheetVersion: Jun-2005; PackageVersion: revJ, Aug-1995; PackageReference: M16A; PackageDescription: Molded Package, SO, .150in Wide, 16 Lead; RoHS: N; PinCount: 16; Code_JEDEC: MS-012-AC; Code_IPC: SOIC127P600-16; ComponentLink1Description: Manufacturer URL; ComponentLink1URL: http://www.national.com/; ComponentLink2Description: LP2960 Datasheet; ComponentLink2URL: http://www.national.com/ds/LP/LP2960.pdf; ComponentLink3Description: LP2960 Web Page; ComponentLink3URL: http://www.national.com/pf/LP/LP2960.html; ComponentLink4Description: M16A Package Page; ComponentLink4URL: http://www.national.com/packaging/folders/m16a.html
footprint M16A_N (SOIC, 16-Leads, Body 9.9x3.9mm, Pitch 1.27mm, IPC Medium Density)
footprint M16A_L (SOIC, 16-Leads, Body 9.9x3.9mm, Pitch 1.27mm, IPC High Density)
footprint M16A_M (SOIC, 16-Leads, Body 9.9x3.9mm, Pitch 1.27mm, IPC Low Density)
pins: 1 GND (power), 2 OUT (power), 3 SNS (in), 4 VREF (in), 5 ~{SD} (in), 6 ~{ERR} (oc), 7 AGND (power), 8 GND (power), 9 GND (power), 10 FB (in), 11 V TAP, 12 COMP OUT (oc), 13 GND (power), 14 COMP IN (in), 15 IN (power), 16 GND (power)

## LP2960IM-3.3/NOPB
designator U?
Adjustable Micropower 0.5A Low-Dropout Regulators, 16-pin Narrow SOIC, Pb-Free; PartNumber: LP2960IM-3.3/NOPB; Manufacturer: National Semiconductor; PackageTopMarking: NSUZXYTTE#*LP2960IM*-3.3; PowerWise: N; CompType: LDO IC; High-Reliability: Y; DatasheetVersion: Jun-2005; PackageVersion: revJ, Aug-1995; PackageReference: M16A; PackageDescription: Molded Package, SO, .150in Wide, 16 Lead; RoHS: Y; PinCount: 16; Code_JEDEC: MS-012-AC; Code_IPC: SOIC127P600-16; ComponentLink1Description: Manufacturer URL; ComponentLink1URL: http://www.national.com/; ComponentLink2Description: LP2960 Datasheet; ComponentLink2URL: http://www.national.com/ds/LP/LP2960.pdf; ComponentLink3Description: LP2960 Web Page; ComponentLink3URL: http://www.national.com/pf/LP/LP2960.html; ComponentLink4Description: M16A Package Page; ComponentLink4URL: http://www.national.com/packaging/folders/m16a.html
footprint M16A_N (SOIC, 16-Leads, Body 9.9x3.9mm, Pitch 1.27mm, IPC Medium Density)
footprint M16A_L (SOIC, 16-Leads, Body 9.9x3.9mm, Pitch 1.27mm, IPC High Density)
footprint M16A_M (SOIC, 16-Leads, Body 9.9x3.9mm, Pitch 1.27mm, IPC Low Density)
pins: 1 GND (power), 2 OUT (power), 3 SNS (in), 4 VREF (in), 5 ~{SD} (in), 6 ~{ERR} (oc), 7 AGND (power), 8 GND (power), 9 GND (power), 10 FB (in), 11 V TAP, 12 COMP OUT (oc), 13 GND (power), 14 COMP IN (in), 15 IN (power), 16 GND (power)

## LP2960IM-5.0
designator U?
Adjustable Micropower 0.5A Low-Dropout Regulators, 16-pin Narrow SOIC; PartNumber: LP2960IM-5.0; Manufacturer: National Semiconductor; PackageTopMarking: NSUZXYTTE#*LP2960IM*-5.0; PowerWise: N; CompType: LDO IC; High-Reliability: Y; DatasheetVersion: Jun-2005; PackageVersion: revJ, Aug-1995; PackageReference: M16A; PackageDescription: Molded Package, SO, .150in Wide, 16 Lead; RoHS: N; PinCount: 16; Code_JEDEC: MS-012-AC; Code_IPC: SOIC127P600-16; ComponentLink1Description: Manufacturer URL; ComponentLink1URL: http://www.national.com/; ComponentLink2Description: LP2960 Datasheet; ComponentLink2URL: http://www.national.com/ds/LP/LP2960.pdf; ComponentLink3Description: LP2960 Web Page; ComponentLink3URL: http://www.national.com/pf/LP/LP2960.html; ComponentLink4Description: M16A Package Page; ComponentLink4URL: http://www.national.com/packaging/folders/m16a.html
footprint M16A_N (SOIC, 16-Leads, Body 9.9x3.9mm, Pitch 1.27mm, IPC Medium Density)
footprint M16A_L (SOIC, 16-Leads, Body 9.9x3.9mm, Pitch 1.27mm, IPC High Density)
footprint M16A_M (SOIC, 16-Leads, Body 9.9x3.9mm, Pitch 1.27mm, IPC Low Density)
pins: 1 GND (power), 2 OUT (power), 3 SNS (in), 4 VREF (in), 5 ~{SD} (in), 6 ~{ERR} (oc), 7 AGND (power), 8 GND (power), 9 GND (power), 10 FB (in), 11 V TAP, 12 COMP OUT (oc), 13 GND (power), 14 COMP IN (in), 15 IN (power), 16 GND (power)

## LP2960IM-5.0/NOPB
designator U?
Adjustable Micropower 0.5A Low-Dropout Regulators, 16-pin Narrow SOIC, Pb-Free; PartNumber: LP2960IM-5.0/NOPB; Manufacturer: National Semiconductor; PackageTopMarking: NSUZXYTTE#*LP2960IM*-5.0; PowerWise: N; CompType: LDO IC; High-Reliability: Y; DatasheetVersion: Jun-2005; PackageVersion: revJ, Aug-1995; PackageReference: M16A; PackageDescription: Molded Package, SO, .150in Wide, 16 Lead; RoHS: Y; PinCount: 16; Code_JEDEC: MS-012-AC; Code_IPC: SOIC127P600-16; ComponentLink1Description: Manufacturer URL; ComponentLink1URL: http://www.national.com/; ComponentLink2Description: LP2960 Datasheet; ComponentLink2URL: http://www.national.com/ds/LP/LP2960.pdf; ComponentLink3Description: LP2960 Web Page; ComponentLink3URL: http://www.national.com/pf/LP/LP2960.html; ComponentLink4Description: M16A Package Page; ComponentLink4URL: http://www.national.com/packaging/folders/m16a.html
footprint M16A_N (SOIC, 16-Leads, Body 9.9x3.9mm, Pitch 1.27mm, IPC Medium Density)
footprint M16A_L (SOIC, 16-Leads, Body 9.9x3.9mm, Pitch 1.27mm, IPC High Density)
footprint M16A_M (SOIC, 16-Leads, Body 9.9x3.9mm, Pitch 1.27mm, IPC Low Density)
pins: 1 GND (power), 2 OUT (power), 3 SNS (in), 4 VREF (in), 5 ~{SD} (in), 6 ~{ERR} (oc), 7 AGND (power), 8 GND (power), 9 GND (power), 10 FB (in), 11 V TAP, 12 COMP OUT (oc), 13 GND (power), 14 COMP IN (in), 15 IN (power), 16 GND (power)

## LP2960IMX-3.3
designator U?
Adjustable Micropower 0.5A Low-Dropout Regulators, 16-pin Narrow SOIC; PartNumber: LP2960IMX-3.3; Manufacturer: National Semiconductor; PackageTopMarking: NSUZXYTTE#*LP2960IM*-3.3; PowerWise: N; CompType: LDO IC; High-Reliability: Y; DatasheetVersion: Jun-2005; PackageVersion: revJ, Aug-1995; PackageReference: M16A; PackageDescription: Molded Package, SO, .150in Wide, 16 Lead; RoHS: N; PinCount: 16; Code_JEDEC: MS-012-AC; Code_IPC: SOIC127P600-16; ComponentLink1Description: Manufacturer URL; ComponentLink1URL: http://www.national.com/; ComponentLink2Description: LP2960 Datasheet; ComponentLink2URL: http://www.national.com/ds/LP/LP2960.pdf; ComponentLink3Description: LP2960 Web Page; ComponentLink3URL: http://www.national.com/pf/LP/LP2960.html; ComponentLink4Description: M16A Package Page; ComponentLink4URL: http://www.national.com/packaging/folders/m16a.html
footprint M16A_N (SOIC, 16-Leads, Body 9.9x3.9mm, Pitch 1.27mm, IPC Medium Density)
footprint M16A_L (SOIC, 16-Leads, Body 9.9x3.9mm, Pitch 1.27mm, IPC High Density)
footprint M16A_M (SOIC, 16-Leads, Body 9.9x3.9mm, Pitch 1.27mm, IPC Low Density)
pins: 1 GND (power), 2 OUT (power), 3 SNS (in), 4 VREF (in), 5 ~{SD} (in), 6 ~{ERR} (oc), 7 AGND (power), 8 GND (power), 9 GND (power), 10 FB (in), 11 V TAP, 12 COMP OUT (oc), 13 GND (power), 14 COMP IN (in), 15 IN (power), 16 GND (power)

## LP2966IMM-1833
designator U?
Dual 150mA Ultra Low-Dropout Regulator, 8-pin Mini SOIC; PartNumber: LP2966IMM-1833; Manufacturer: National Semiconductor; PackageTopMarking: ZXTT*LCFB; PowerWise: N; CompType: LDO IC; High-Reliability: Y; DatasheetVersion: Mar-2005; PackageVersion: revF, Apr-2008; PackageReference: MUA08A; PackageDescription: MINI SOIC, .118 x .118 x .034in, 8 Lead, .0256in Pitch; RoHS: N; PinCount: 8; Code_JEDEC: MO-187-AA; ComponentLink1Description: Manufacturer URL; ComponentLink1URL: http://www.national.com/; ComponentLink2Description: LP2966 Datasheet; ComponentLink2URL: http://www.national.com/ds/LP/LP2966.pdf; ComponentLink3Description: LP2966 Web Page; ComponentLink3URL: http://www.national.com/pf/LP/LP2966.html; ComponentLink4Description: MUA08A Package Page; ComponentLink4URL: http://www.national.com/packaging/folders/mua08a.html
footprint MUA08A_N (TSOP, 8-Leads, Body 3x3mm, Pitch 0.65mm, IPC Medium Density)
footprint MUA08A_L (TSOP, 8-Leads, Body 3x3mm, Pitch 0.65mm, IPC High Density)
footprint MUA08A_M (TSOP, 8-Leads, Body 3x3mm, Pitch 0.65mm, IPC Low Density)
pins: 1 IN (power), 2 ~{SD1} (in), 3 ~{SD2} (in), 4 GND (power), 5 ~{ERR2} (oc), 6 ~{ERR1} (oc), 7 OUT2 (power), 8 OUT1 (power)

## LP2966IMM-1833/NOPB
designator U?
Dual 150mA Ultra Low-Dropout Regulator, 8-pin Mini SOIC, Pb-Free; PartNumber: LP2966IMM-1833/NOPB; Manufacturer: National Semiconductor; PackageTopMarking: ZXTT*LCFB; PowerWise: N; CompType: LDO IC; High-Reliability: Y; DatasheetVersion: Mar-2005; PackageVersion: revF, Apr-2008; PackageReference: MUA08A; PackageDescription: MINI SOIC, .118 x .118 x .034in, 8 Lead, .0256in Pitch; RoHS: Y; PinCount: 8; Code_JEDEC: MO-187-AA; ComponentLink1Description: Manufacturer URL; ComponentLink1URL: http://www.national.com/; ComponentLink2Description: LP2966 Datasheet; ComponentLink2URL: http://www.national.com/ds/LP/LP2966.pdf; ComponentLink3Description: LP2966 Web Page; ComponentLink3URL: http://www.national.com/pf/LP/LP2966.html; ComponentLink4Description: MUA08A Package Page; ComponentLink4URL: http://www.national.com/packaging/folders/mua08a.html
footprint MUA08A_N (TSOP, 8-Leads, Body 3x3mm, Pitch 0.65mm, IPC Medium Density)
footprint MUA08A_L (TSOP, 8-Leads, Body 3x3mm, Pitch 0.65mm, IPC High Density)
footprint MUA08A_M (TSOP, 8-Leads, Body 3x3mm, Pitch 0.65mm, IPC Low Density)
pins: 1 IN (power), 2 ~{SD1} (in), 3 ~{SD2} (in), 4 GND (power), 5 ~{ERR2} (oc), 6 ~{ERR1} (oc), 7 OUT2 (power), 8 OUT1 (power)

## LP2966IMM-2518
designator U?
Dual 150mA Ultra Low-Dropout Regulator, 8-pin Mini SOIC; PartNumber: LP2966IMM-2518; Manufacturer: National Semiconductor; PackageTopMarking: ZXTT*LJKB; PowerWise: N; CompType: LDO IC; High-Reliability: Y; DatasheetVersion: Mar-2005; PackageVersion: revF, Apr-2008; PackageReference: MUA08A; PackageDescription: MINI SOIC, .118 x .118 x .034in, 8 Lead, .0256in Pitch; RoHS: N; PinCount: 8; Code_JEDEC: MO-187-AA; ComponentLink1Description: Manufacturer URL; ComponentLink1URL: http://www.national.com/; ComponentLink2Description: LP2966 Datasheet; ComponentLink2URL: http://www.national.com/ds/LP/LP2966.pdf; ComponentLink3Description: LP2966 Web Page; ComponentLink3URL: http://www.national.com/pf/LP/LP2966.html; ComponentLink4Description: MUA08A Package Page; ComponentLink4URL: http://www.national.com/packaging/folders/mua08a.html
footprint MUA08A_N (TSOP, 8-Leads, Body 3x3mm, Pitch 0.65mm, IPC Medium Density)
footprint MUA08A_L (TSOP, 8-Leads, Body 3x3mm, Pitch 0.65mm, IPC High Density)
footprint MUA08A_M (TSOP, 8-Leads, Body 3x3mm, Pitch 0.65mm, IPC Low Density)
pins: 1 IN (power), 2 ~{SD1} (in), 3 ~{SD2} (in), 4 GND (power), 5 ~{ERR2} (oc), 6 ~{ERR1} (oc), 7 OUT2 (power), 8 OUT1 (power)

## LP2966IMM-2525
designator U?
Dual 150mA Ultra Low-Dropout Regulator, 8-pin Mini SOIC; PartNumber: LP2966IMM-2525; Manufacturer: National Semiconductor; PackageTopMarking: ZXTT*LAAB; PowerWise: N; CompType: LDO IC; High-Reliability: Y; DatasheetVersion: Mar-2005; PackageVersion: revF, Apr-2008; PackageReference: MUA08A; PackageDescription: MINI SOIC, .118 x .118 x .034in, 8 Lead, .0256in Pitch; RoHS: N; PinCount: 8; Code_JEDEC: MO-187-AA; ComponentLink1Description: Manufacturer URL; ComponentLink1URL: http://www.national.com/; ComponentLink2Description: LP2966 Datasheet; ComponentLink2URL: http://www.national.com/ds/LP/LP2966.pdf; ComponentLink3Description: LP2966 Web Page; ComponentLink3URL: http://www.national.com/pf/LP/LP2966.html; ComponentLink4Description: MUA08A Package Page; ComponentLink4URL: http://www.national.com/packaging/folders/mua08a.html
footprint MUA08A_N (TSOP, 8-Leads, Body 3x3mm, Pitch 0.65mm, IPC Medium Density)
footprint MUA08A_L (TSOP, 8-Leads, Body 3x3mm, Pitch 0.65mm, IPC High Density)
footprint MUA08A_M (TSOP, 8-Leads, Body 3x3mm, Pitch 0.65mm, IPC Low Density)
pins: 1 IN (power), 2 ~{SD1} (in), 3 ~{SD2} (in), 4 GND (power), 5 ~{ERR2} (oc), 6 ~{ERR1} (oc), 7 OUT2 (power), 8 OUT1 (power)

## LP2966IMM-2525/NOPB
designator U?
Dual 150mA Ultra Low-Dropout Regulator, 8-pin Mini SOIC, Pb-Free; PartNumber: LP2966IMM-2525/NOPB; Manufacturer: National Semiconductor; PackageTopMarking: ZXTT*LAAB; PowerWise: N; CompType: LDO IC; High-Reliability: Y; DatasheetVersion: Mar-2005; PackageVersion: revF, Apr-2008; PackageReference: MUA08A; PackageDescription: MINI SOIC, .118 x .118 x .034in, 8 Lead, .0256in Pitch; RoHS: Y; PinCount: 8; Code_JEDEC: MO-187-AA; ComponentLink1Description: Manufacturer URL; ComponentLink1URL: http://www.national.com/; ComponentLink2Description: LP2966 Datasheet; ComponentLink2URL: http://www.national.com/ds/LP/LP2966.pdf; ComponentLink3Description: LP2966 Web Page; ComponentLink3URL: http://www.national.com/pf/LP/LP2966.html; ComponentLink4Description: MUA08A Package Page; ComponentLink4URL: http://www.national.com/packaging/folders/mua08a.html
footprint MUA08A_N (TSOP, 8-Leads, Body 3x3mm, Pitch 0.65mm, IPC Medium Density)
footprint MUA08A_L (TSOP, 8-Leads, Body 3x3mm, Pitch 0.65mm, IPC High Density)
footprint MUA08A_M (TSOP, 8-Leads, Body 3x3mm, Pitch 0.65mm, IPC Low Density)
pins: 1 IN (power), 2 ~{SD1} (in), 3 ~{SD2} (in), 4 GND (power), 5 ~{ERR2} (oc), 6 ~{ERR1} (oc), 7 OUT2 (power), 8 OUT1 (power)